# Altium integrated library MM74HC164MX.IntLib: 1 symbol
Pins are listed as number, name and electrical type; pins without a type are passive.

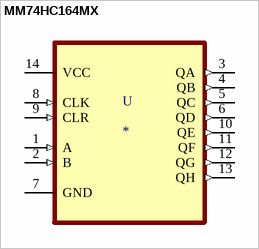
[diagram p0: symbol MM74HC164MX]

## MM74HC164MX
designator U
Shift Shift Register 1 Element 8 Bit 14-SOIC; MP: MM74HC164MX; MF: ON Semiconductor; Value: *; Availability: Unavailable; Price: None; Package: SOIC-14 Fairchild Semiconductor; SnapEDA_Link: https://www.snapeda.com/parts/MM74HC164MX/ON%20Semiconductor/view-part/180428/?ref=snap
footprint SOIC127P600X175-14N
pins: 1 A (in), 2 B (in), 3 QA (out), 4 QB (out), 5 QC (out), 6 QD (out), 7 GND, 8 CLK (in), 9 CLR (in), 10 QE (out), 11 QF (out), 12 QG (out), 13 QH (out), 14 VCC (power)